# EAGLE library part SAM4S16B (library pimoroni)
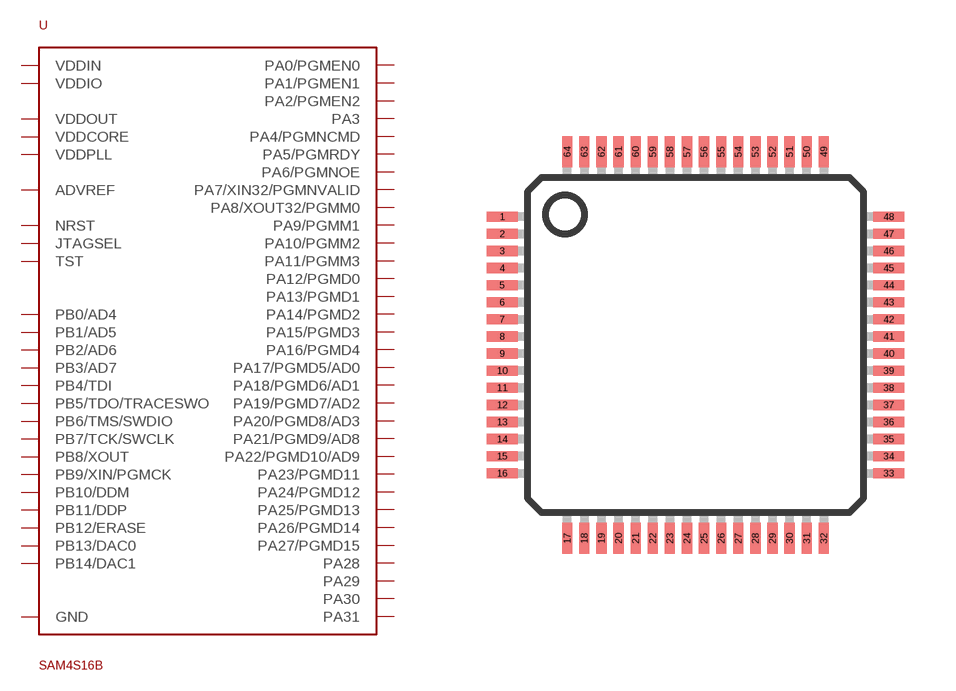
[diagram p38: symbol with the pads of LQFP-64; footprint LQFP-64]

Designator prefix -

## SAM4S16B  [LQFP-64]
1  ADVREF
2  GND
3  PB0/AD4
4  PB1/AD5
5  PB2/AD6
6  PB3/AD7
7  VDDIN
8  VDDOUT
9  PA17/PGMD5/AD0
10  PA18/PGMD6/AD1
11  PA21/PGMD9/AD8
12  VDDCORE
13  PA19/PGMD7/AD2
14  PA22/PGMD10/AD9
15  PA23/PGMD11
16  PA20/PGMD8/AD3
17  GND
18  VDDIO
19  PA16/PGMD4
20  PA15/PGMD3
21  PA14/PGMD2
22  PA13/PGMD1
23  PA24/PGMD12
24  VDDCORE
25  PA25/PGMD13
26  PA26/PGMD14
27  PA12/PGMD0
28  PA11/PGMM3
29  PA10/PGMM2
30  PA9/PGMM1
31  PA8/XOUT32/PGMM0
32  PA7/XIN32/PGMNVALID
33  PB4/TDI
34  PA6/PGMNOE
35  PA5/PGMRDY
36  PA4/PGMNCMD
37  PA27/PGMD15
38  PA28
39  NRST
40  TST
41  PA29
42  PA30
43  PA3
44  PA2/PGMEN2
45  VDDIO
46  GND
47  PA1/PGMEN1
48  PA0/PGMEN0
49  PB5/TDO/TRACESWO
50  JTAGSEL
51  PB6/TMS/SWDIO
52  PA31
53  PB7/TCK/SWCLK
54  VDDCORE
55  PB12/ERASE
56  PB10/DDM
57  PB11/DDP
58  VDDIO
59  PB13/DAC0
60  GND
61  PB8/XOUT
62  PB9/XIN/PGMCK
63  PB14/DAC1
64  VDDPLL

## Footprint LQFP-64 (pad centres in mm)
64-Lead Low Profile Quad Flat Package [LQFP] (ST-64-2) COMPLIANT TO JEDEC STANDARDS MS-026-BCD Source: http://www.analog.com/UploadedFiles/Data_Sheets/288945048AD7C7019_20_1_2_4_5_6_7_0.pdf
smd 0.9 x 0.3: 1 -5.65,3.75; 2 -5.65,3.25; 3 -5.65,2.75; 4 -5.65,2.25; 5 -5.65,1.75; 6 -5.65,1.25; 7 -5.65,0.75; 8 -5.65,0.25; 9 -5.65,-0.25; 10 -5.65,-0.75; 11 -5.65,-1.25; 12 -5.65,-1.75; 13 -5.65,-2.25; 14 -5.65,-2.75; 15 -5.65,-3.25; 16 -5.65,-3.75; 33 5.65,-3.75; 34 5.65,-3.25; 35 5.65,-2.75; 36 5.65,-2.25; 37 5.65,-1.75; 38 5.65,-1.25; 39 5.65,-0.75; 40 5.65,-0.25; 41 5.65,0.25; 42 5.65,0.75; 43 5.65,1.25; 44 5.65,1.75; 45 5.65,2.25; 46 5.65,2.75; 47 5.65,3.25; 48 5.65,3.75
smd 0.3 x 0.9: 17 -3.75,-5.65; 18 -3.25,-5.65; 19 -2.75,-5.65; 20 -2.25,-5.65; 21 -1.75,-5.65; 22 -1.25,-5.65; 23 -0.75,-5.65; 24 -0.25,-5.65; 25 0.25,-5.65; 26 0.75,-5.65; 27 1.25,-5.65; 28 1.75,-5.65; 29 2.25,-5.65; 30 2.75,-5.65; 31 3.25,-5.65; 32 3.75,-5.65; 49 3.75,5.65; 50 3.25,5.65; 51 2.75,5.65; 52 2.25,5.65; 53 1.75,5.65; 54 1.25,5.65; 55 0.75,5.65; 56 0.25,5.65; 57 -0.25,5.65; 58 -0.75,5.65; 59 -1.25,5.65; 60 -1.75,5.65; 61 -2.25,5.65; 62 -2.75,5.65; 63 -3.25,5.65; 64 -3.75,5.65